# Altium footprint library X电容.PcbLib: 3 footprints
Each footprint in its own frame and in the unit in brackets; x right, y up, seen from the top. Pads: shape width x height; smd on the part's side, far side on the other; paste and mask are expansions set on the pad; w line width, h text height; cw(c..) or ccw(c..) is an arc to the next point about the centre after c.
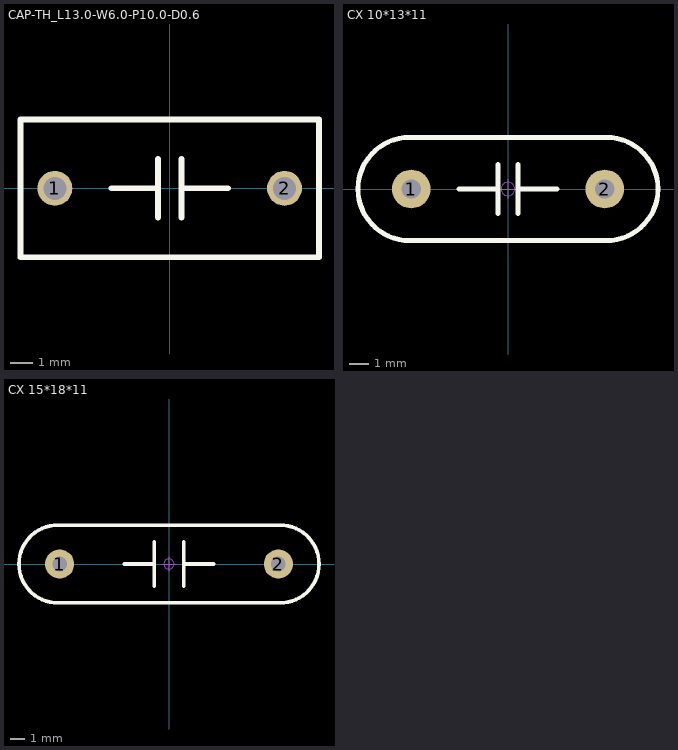
[diagram p0: the footprints below, top view; thin cyan lines are the x and y axes]

## CAP-TH_L13.0-W6.0-P10.0-D0.6 [mil]
pads (2):
  round 60 hole 39.37: 1(-196.85,0) 2(196.85,0)
Top Overlay:
  lines w10: -100,0 -23.78,0 ; -20,-50 -20,50 ; 20,-50 20,50 ; 20,0 100,0 ; -255.91,-118.11 -255.91,118.11 255.91,118.11 255.91,-118.11 -255.91,-118.11
Mechanical 15:
  region: 208.67,0 208.62,2.32 206.78,6.58 203.47,9.83 199.17,11.58 194.53,11.58 190.24,9.83 186.92,6.58 185.08,2.32 185.04,0 185.08,-2.32 186.92,-6.58 190.24,-9.83 194.53,-11.59 199.17,-11.59 203.47,-9.83 206.78,-6.58 208.62,-2.32
  region: -185.03,0 -185.08,2.32 -186.92,6.58 -190.23,9.83 -194.53,11.58 -199.17,11.58 -203.46,9.83 -206.78,6.58 -208.62,2.32 -208.66,0 -208.62,-2.32 -206.78,-6.58 -203.46,-9.83 -199.17,-11.59 -194.53,-11.59 -190.23,-9.83 -186.92,-6.58 -185.08,-2.32
  region: -253.55,-118.11 -253.55,-117.13 -254.93,-115.75 -256.89,-115.75 -258.27,-117.13 -258.27,-118.11 -258.27,-119.09 -256.89,-120.47 -254.93,-120.47 -253.55,-119.09
  lines w2: -255.91,-118.11 255.91,-118.11 255.91,118.11 -255.91,118.11 -255.91,-118.11
3D body "C1.step": height 551.18, standoff -118.11, extent -255.91,-118.11 255.91,118.15

## CX 10*13*11 [mm] "脚距10mm高13mm厚11mm"
pads (2):
  round 2 hole 1: 1(-5,0) 2(5,0)
Top Overlay:
  lines w0.254: -2.54,0 -0.604,0 ; -0.508,-1.27 -0.508,1.27 ; 0.508,-1.27 0.508,1.27 ; 0.508,0 2.54,0 ; -5.08,-2.667 cw(c-5.08,0) -5.08,2.667 5.08,2.667 cw(c5.08,0) 5.08,-2.667 -5.08,-2.667
Mechanical 15:
  circle w0.05: c0,0 r0.35
  lines w0.05: -0.5,0 0.5,0 ; 0,-0.5 0,0.5
3D body "CX 10X13X11.STEP": height 11.02, standoff -3.48, extent -6.5,-2.5 6.5,2.5

## CX 15*18*11 [mm] "脚距15mm高18mm厚11mm"
pads (2):
  round 2 hole 1: 1(-7.5,0) 2(7.5,0)
Top Overlay:
  lines w0.254: -3.048,0 -1.016,0 ; -1.016,-1.524 -1.016,1.524 ; 1.016,-1.524 1.016,1.524 ; 1.016,0 3.048,0 ; -7.62,-2.667 cw(c-7.62,0) -7.62,2.667 7.62,2.667 cw(c7.62,0) 7.62,-2.667 -7.62,-2.667
Mechanical 15:
  circle w0.05: c0,0 r0.35
  lines w0.05: -0.5,0 0.5,0 ; 0,-0.5 0,0.5
3D body "CX 15X18X11.STEP": height 11.02, standoff -3.48, extent -9,-2.5 9,2.5